# Altium footprint library Discrete.PcbLib: 39 footprints (part 3 of 3)
Each footprint in its own frame and in the unit in brackets; x right, y up, seen from the top. Pads: shape width x height; smd on the part's side, far side on the other; paste and mask are expansions set on the pad; w line width, h text height; cw(c..) or ccw(c..) is an arc to the next point about the centre after c.
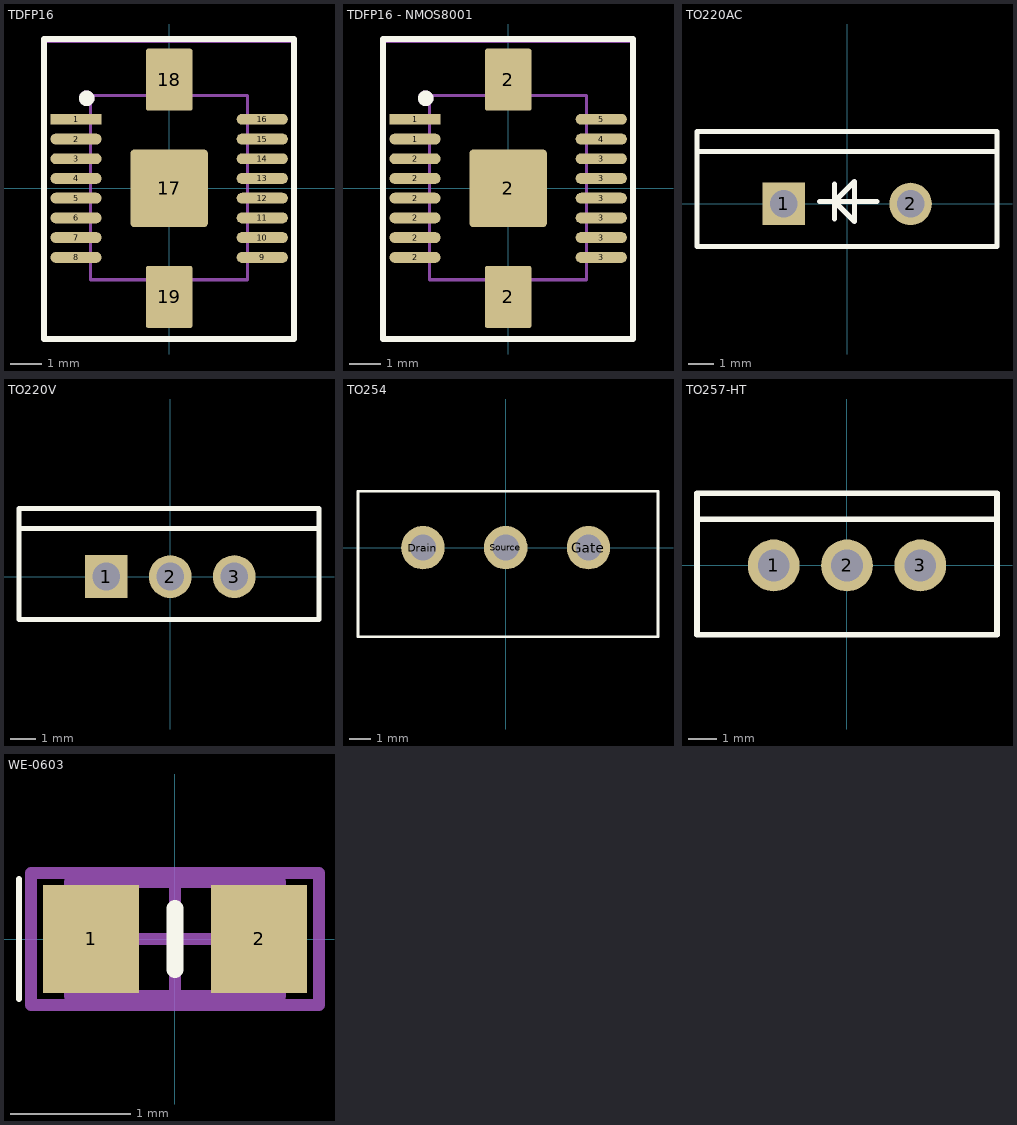
[diagram p2: the footprints below, top view; thin cyan lines are the x and y axes]

## TDFP16 [mm] "TDFP16"
height 1.91
pads (19):
  rect 1.65x0.35 smd: 1(-3,2.225)
  oval 1.65x0.35 smd: 2(-3,1.587) 3(-3,0.953) 4(-3,0.318) 5(-3,-0.318) 6(-3,-0.953) 7(-3,-1.587) 8(-3,-2.225) 9(3,-2.225) 10(3,-1.587) 11(3,-0.953) 12(3,-0.318) 13(3,0.318) 14(3,0.953) 15(3,1.587) 16(3,2.225)
  rrect10% 2.5x2.5 smd: 17(0,0)
  rrect10% 1.5x2 smd: 18(0,3.5) 19(0,-3.5)
Top Overlay:
  circle w0.25: c-2.655,2.9 r0.125
  lines w0.2: -4.03,-4.855 4.02,-4.855 4.02,4.81 -4.03,4.81 -4.03,-4.855
Mechanical 1:
  circle w0.1: c-2.655,2.905 r0.2
  lines w0.1: -2.535,-2.945 2.53,-2.945 2.53,2.99 -2.535,2.99 -2.535,-2.945
Mechanical 15:
  lines w0.1: -0.5,0 0.5,0 ; 0,-0.5 0,0.5 ; -4.03,-4.84 4.02,-4.84 4.02,4.735 -4.03,4.735 -4.03,-4.84
3D body "TDFP16.step": height 1.15, standoff 0.1, extent -3.18,-3.735 3.32,3.765

## TDFP16 - NMOS8001 [mm] "TDFP16"
height 1.91
pads (19):
  oval 1.65x0.35 smd: 1(-3,1.587) 2(-3,-2.225) 2(-3,-1.587) 2(-3,-0.953) 2(-3,-0.318) 2(-3,0.318) 2(-3,0.953) 3(3,-2.225) 3(3,-1.587) 3(3,-0.953) 3(3,-0.318) 3(3,0.318) 3(3,0.953) 4(3,1.587) 5(3,2.225)
  rect 1.65x0.35 smd: 1(-3,2.225)
  rrect10% 1.5x2 smd: 2(0,-3.5) 2(0,3.5)
  rrect10% 2.5x2.5 smd: 2(0,0)
Top Overlay:
  circle w0.25: c-2.655,2.9 r0.125
  lines w0.2: -4.03,-4.855 -4.03,4.81 4.02,4.81 4.02,-4.855 -4.03,-4.855
Mechanical 1:
  circle w0.1: c-2.655,2.905 r0.2
  lines w0.1: -2.535,-2.945 -2.535,2.99 2.53,2.99 2.53,-2.945 -2.535,-2.945
Mechanical 15:
  lines w0.1: -0.5,0 0.5,0 ; 0,-0.5 0,0.5 ; -4.03,-4.84 -4.03,4.735 4.02,4.735 4.02,-4.84 -4.03,-4.84
3D body "TDFP16.step": height 1.15, standoff 0.1, extent -3.18,-3.735 3.32,3.765

## TO220AC [mm] "TO, Thru-Hole, Vertical, Heatsink Mounted; 2 In-Line Leads; Pitch 2.54 mm; Pin sequence 1,2"
height 19.4
pads (2):
  rect 1.7x1.7 hole 1.1: 1(-2.54,0)
  round 1.7 hole 1.1: 2(2.54,0)
Top Overlay:
  lines w0.2: -6,2.1 6,2.1 ; -1.1,0.1 1.2,0.1 ; -0.5,-0.6 -0.5,0.8 ; -6,-1.7 -6,2.9 6,2.9 6,-1.7 -6,-1.7 ; -0.5,0.1 0.3,0.9 0.3,-0.7 -0.5,0.1
3D body "TO-220 2pins short V1.stp": height 21.11, standoff -1, extent -5.9,-1.7 5.984,2.7

## TO220V [mm] "TO, Thru-Hole, Vertical, Heatsink Mounted; 3 In-Line Leads; Pitch 2.54 mm; Pin sequence 1, 3, 2"
height 19.4
pads (3):
  rect 1.7x1.7 hole 1.1: 1(-2.54,0)
  round 1.7 hole 1.1: 2(0,0) 3(2.54,0)
Top Overlay:
  lines w0.2: -6,1.9 5.9,1.9 ; -6,-1.7 5.9,-1.7 5.9,2.7 -6,2.7 -6,-1.7
3D body "TO-220 3pins short V1.stp": height 21.11, standoff -1, extent -5.942,-1.75 5.942,2.65

## TO254 [mm] "TO254"
height 17
pads (3):
  round 2 hole 1.2: Drain(-3.81,0) Gate(3.81,0) Source(0,0)
Top Overlay:
  lines w0.127: -6.8,-4.1 -6.8,2.6 7.01,2.6 7.01,-4.1 -6.8,-4.1
3D body "TO254.STEP": height 27.19, standoff -3, extent -6.86,-3.92 6.86,2.6

## TO257-HT [mm] "TO, Thru-Hole, Vertical, Heatsink Mounted; 3 In-Line Leads; Pitch 2.54 mm; Pin sequence 1, 3, 2"
height 19.4
pads (3):
  round 1.8 hole 1.1: 1(-2.54,0) 2(0,0) 3(2.54,0)
Top Overlay:
  lines w0.2: -5.2,1.6 5.2,1.6 ; -5.2,-2.4 -5.2,2.5 5.2,2.5 5.2,-2.4 -5.2,-2.4
3D body "TO257.STEP": height 23.5, standoff -3, extent -5.3,-2.76 5.3,2.4

## WE-0603 [mm] "Chip LED, 0603"
height 1.3
pads (2):
  rect 0.8x0.9 smd: 1(-0.7,0) 2(0.7,0)
Top Overlay:
  lines w0.05: -1.3,-0.5 -1.3,0.5
  lines w0.14: 0,-0.254 0,0.254
Mechanical 13:
  lines w0.1: -0.875,-0.475 0.875,-0.475 0.875,0.475 -0.875,0.475 -0.875,-0.475
Mechanical 15:
  lines w0.1: -0.475,0 0.475,0 ; 0,-0.475 0,0.475 ; -1.2,-0.55 1.2,-0.55 1.2,0.55 -1.2,0.55 -1.2,-0.55
3D body "WL-SMCW_0603_LED.stp": height 0.7, standoff 0, extent -0.8,-0.4 0.8,0.4